# Altium footprint library samsung-flash.PcbLib: 1 footprints
Each footprint in its own frame and in the unit in brackets; x right, y up, seen from the top. Pads: shape width x height; smd on the part's side, far side on the other; paste and mask are expansions set on the pad; w line width, h text height; cw(c..) or ccw(c..) is an arc to the next point about the centre after c.
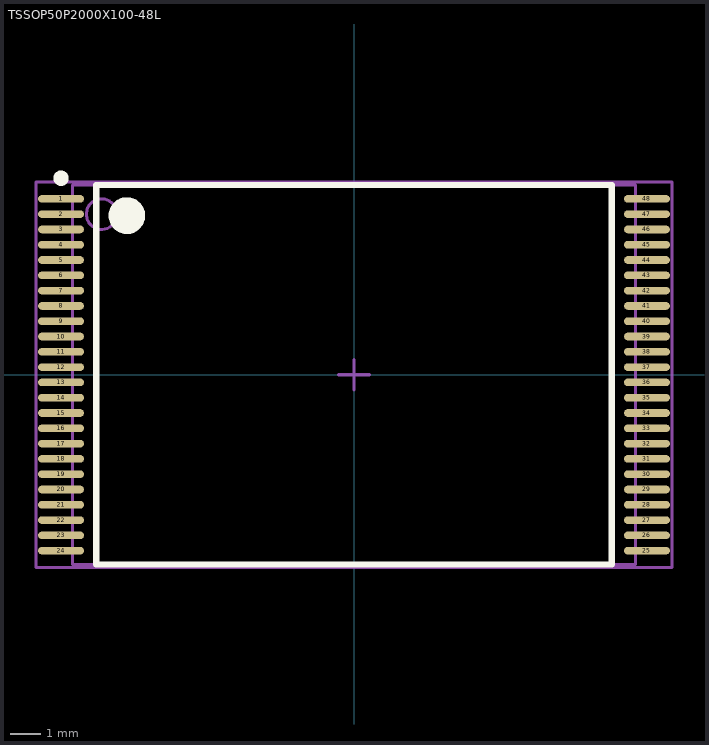
[diagram p0: the footprint, top view; thin cyan lines are the x and y axes]

## TSSOP50P2000X100-48L [mm] "TSSOP, 48-Leads, Body 12.4x18.4mm (max), Pitch 0.50mm, IPC High Density"
height 1
pads (48):
  oval 1.5x0.25 smd: 1(-9.575,5.75) 2(-9.575,5.25) 3(-9.575,4.75) 4(-9.575,4.25) 5(-9.575,3.75) 6(-9.575,3.25) 7(-9.575,2.75) 8(-9.575,2.25) 9(-9.575,1.75) 10(-9.575,1.25) 11(-9.575,0.75) 12(-9.575,0.25) 13(-9.575,-0.25) 14(-9.575,-0.75) 15(-9.575,-1.25) 16(-9.575,-1.75) 17(-9.575,-2.25) 18(-9.575,-2.75) 19(-9.575,-3.25) 20(-9.575,-3.75) 21(-9.575,-4.25) 22(-9.575,-4.75) 23(-9.575,-5.25) 24(-9.575,-5.75) 25(9.575,-5.75) 26(9.575,-5.25) 27(9.575,-4.75) 28(9.575,-4.25) 29(9.575,-3.75) 30(9.575,-3.25) 31(9.575,-2.75) 32(9.575,-2.25) 33(9.575,-1.75) 34(9.575,-1.25) 35(9.575,-0.75) 36(9.575,-0.25) 37(9.575,0.25) 38(9.575,0.75) 39(9.575,1.25) 40(9.575,1.75) 41(9.575,2.25) 42(9.575,2.75) 43(9.575,3.25) 44(9.575,3.75) 45(9.575,4.25) 46(9.575,4.75) 47(9.575,5.25) 48(9.575,5.75)
Top Overlay:
  circle w0.6: c-7.425,5.2 r0.3
  circle w0.25: c-9.575,6.425 r0.125
  lines w0.2: -8.425,-6.2 8.425,-6.2 8.425,6.2 -8.425,6.2 -8.425,-6.2
Mechanical 13:
  circle w0.1: c-8.25,5.25 r0.5
  lines w0.1: -0.5,0 0.5,0 ; 0,-0.5 0,0.5 ; -9.2,-6.2 9.2,-6.2 9.2,6.2 -9.2,6.2 -9.2,-6.2
Mechanical 15:
  lines w0.1: -10.4,-6.3 10.4,-6.3 10.4,6.3 -10.4,6.3 -10.4,-6.3
  text ".Designator" at -2.4,-0.125 h0.5
3D body: height 1.2, standoff -0.06, extent -10.089,-6.044 10.011,6.056